# Altium footprint library LED.PcbLib: 1 footprints
Each footprint in its own frame and in the unit in brackets; x right, y up, seen from the top. Pads: shape width x height; smd on the part's side, far side on the other; paste and mask are expansions set on the pad; w line width, h text height; cw(c..) or ccw(c..) is an arc to the next point about the centre after c.
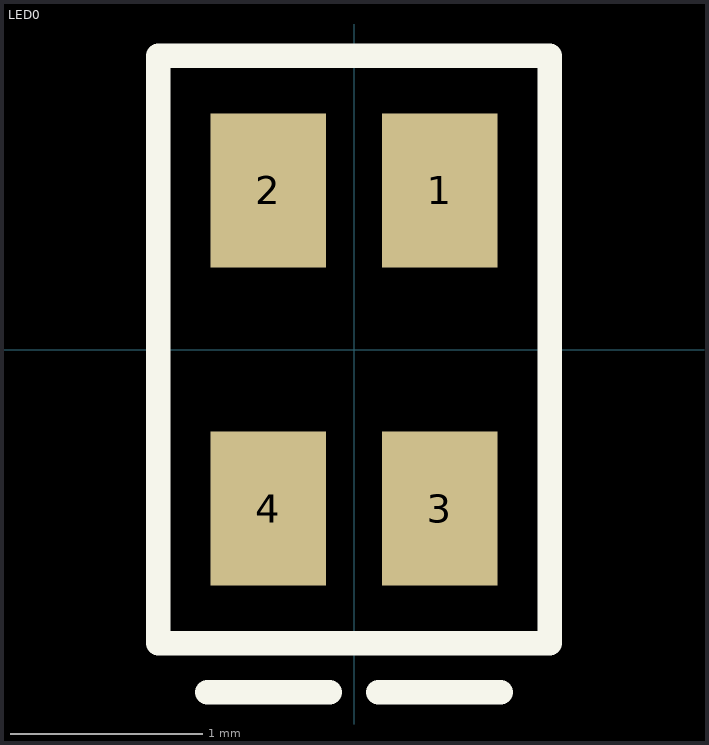
[diagram p0: the footprint, top view; thin cyan lines are the x and y axes]

## LED0 [mm] "发光二极管"
pads (4):
  rect 0.6x0.8 smd: 1(0.445,0.826) 2(-0.445,0.826) 3(0.445,-0.826) 4(-0.445,-0.826)
Top Overlay:
  lines w0.127: -0.762,-1.778 -0.127,-1.778 ; 0.127,-1.778 0.762,-1.778 ; -1.016,-1.524 1.016,-1.524 1.016,1.524 -1.016,1.524 -1.016,-1.524